# Altium footprint library dingo_pcblib.PcbLib: 10 footprints
Each footprint in its own frame and in the unit in brackets; x right, y up, seen from the top. Pads: shape width x height; smd on the part's side, far side on the other; paste and mask are expansions set on the pad; w line width, h text height; cw(c..) or ccw(c..) is an arc to the next point about the centre after c.
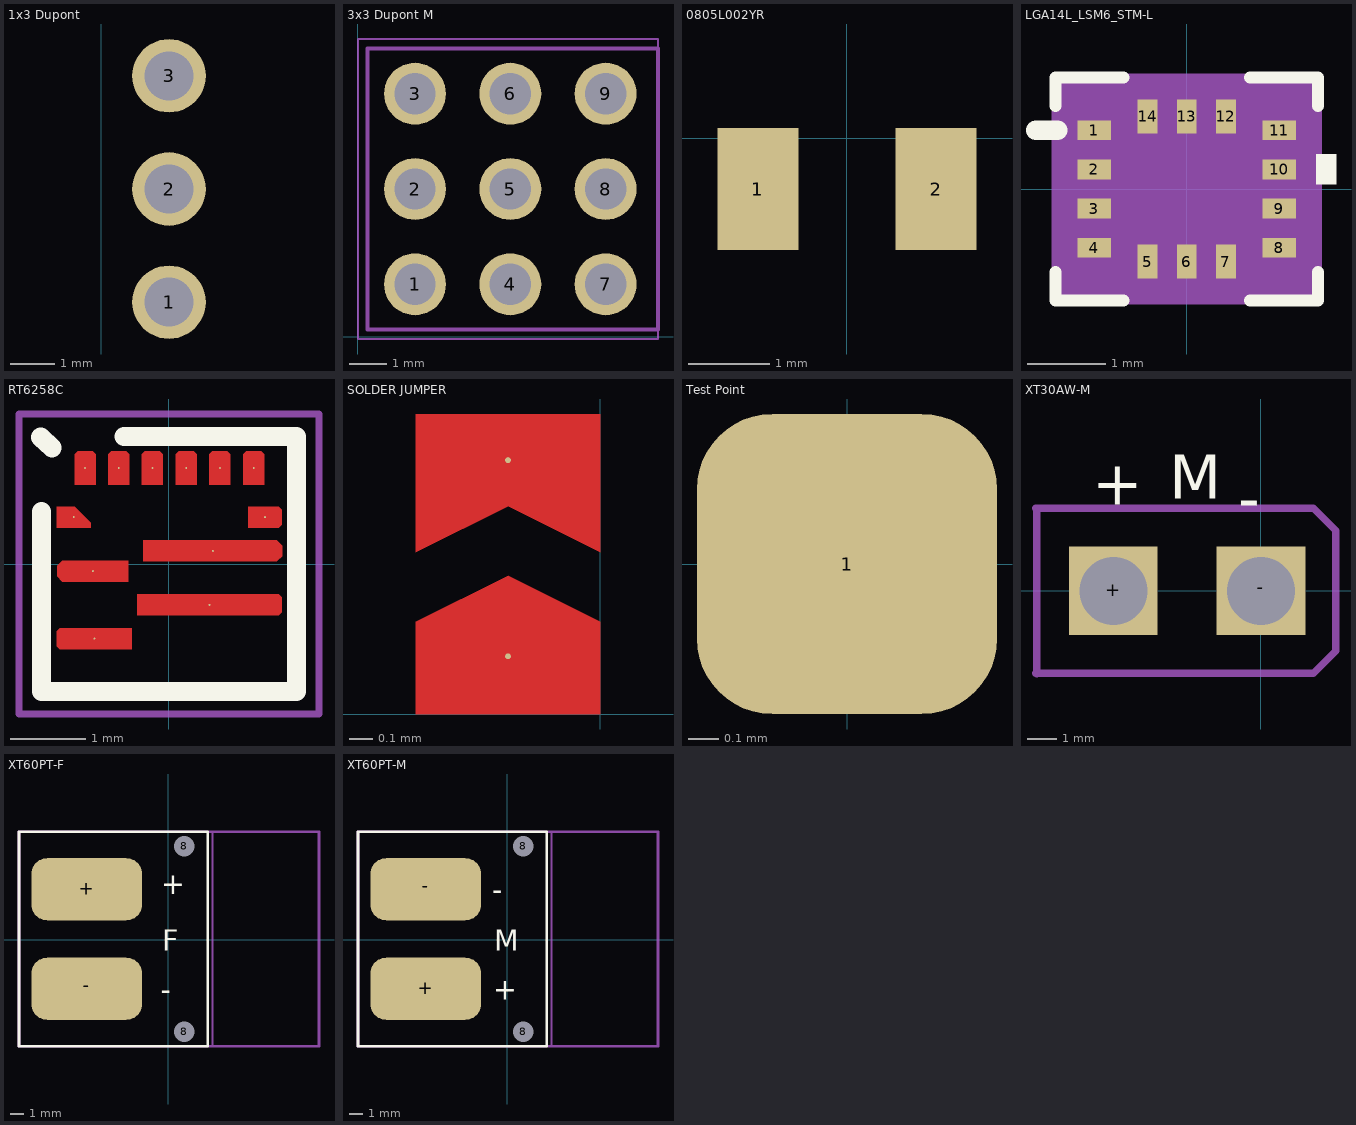
[diagram p0: the footprints below, top view; thin cyan lines are the x and y axes]

## 1x3 Dupont [mm]
pads (3):
  round 1.65 hole 1.1: 1(1.524,1.397) 2(1.524,3.937) 3(1.524,6.477)
3D body "PinHeader_3x01_P2.54mm_Horizontal.step": height 7.62, standoff -3, extent 0.254,-8.56 2.794,6.88

## 3x3 Dupont M [mm]
pads (9):
  round 1.65 hole 1.1: 1(1.524,1.397) 2(1.524,3.937) 3(1.524,6.477) 4(4.064,1.397) 5(4.064,3.937) 6(4.064,6.477) 7(6.604,1.397) 8(6.604,3.937) 9(6.604,6.477)
Mechanical 13:
  lines w0.1: 0.254,0.192 8,0.192 8,7.682 0.254,7.682 0.254,0.192
Mechanical 15:
  lines w0.05: 0.004,-0.058 8,-0.058 8,7.932 0.004,7.932 0.004,-0.058
3D body "PinHeader_3x03_P2.54mm_Horizontal.step": height 7.62, standoff -3, extent 0.3,-8.62 7.92,6.82

## 0805L002YR [mm] "Fuse"
pads (2):
  rect 1x1.5 smd: 1(-1.1,-0.625) 2(1.1,-0.625)
3D body "0000035768.stp": height 1.25, standoff 0, extent -1.125,-1.375 1.075,0.125

## LGA14L_LSM6_STM-L [mil]
pads (14):
  rect 17x10 smd paste+0 mask+0: 1(-46.5,29.54) 2(-46.5,9.85) 3(-46.5,-9.85) 4(-46.5,-29.54) 8(46.5,-29.54) 9(46.5,-9.85) 10(46.5,9.85) 11(46.5,29.54)
  rect 10x17 smd paste+0 mask+0: 5(-19.69,-36.5) 6(0,-36.5) 7(19.69,-36.5) 12(19.69,36.5) 13(0,36.5) 14(-19.69,36.5)
Top Overlay:
  region: 65,17.34 75,17.34 75,2.35 65,2.35
  lines w6: -66,-41.65 -66,-56 -31.8,-56 ; -66,41.65 -66,56 -31.8,56 ; 31.8,-56 66,-56 66,-41.65 ; 31.8,56 66,56 66,41.65
  lines w10: -75.79,29.53 -64.96,29.53
Mechanical 13:
  lines w1: -61,1 -11,51 ; -61,-51 61,-51 61,51 -61,51 -61,-51 ; -61,-35.53 -61,-23.54 -57,-23.54 -57,-35.53 -61,-35.53 ; -61,-15.85 -61,-3.85 -57,-3.85 -57,-15.85 -61,-15.85 ; -61,3.85 -61,15.85 -57,15.85 -57,3.85 -61,3.85 ; -61,23.54 -61,35.53 -57,35.53 -57,23.54 -61,23.54 ; -25.69,-51 -13.69,-51 -13.69,-47 -25.69,-47 -25.69,-51 ; -25.69,47 -13.69,47 -13.69,51 -25.69,51 -25.69,47 ; -6,-51 6,-51 6,-47 -6,-47 -6,-51 ; -6,47 6,47 6,51 -6,51 -6,47 ; 13.69,-51 25.69,-51 25.69,-47 13.69,-47 13.69,-51 ; 13.69,47 25.69,47 25.69,51 13.69,51 13.69,47 ; 57,-35.53 61,-35.53 61,-23.54 57,-23.54 57,-35.53 ; 57,-15.85 61,-15.85 61,-3.85 57,-3.85 57,-15.85 ; 57,3.85 61,3.85 61,15.85 57,15.85 57,3.85 ; 57,23.54 61,23.54 61,35.53 57,35.53 57,23.54
  text "*" at -19.5,4.54 h50
Mechanical 15:
  region: -28.69,-55 -65,-55 -65,-38.53 -65,38.53 -65,55 -28.69,55 28.69,55 65,55 65,38.53 65,-38.53 65,-55 28.69,-55
  lines w6: -65,-55 -65,-38.53 -65,38.53 -65,55 -28.69,55 28.69,55 65,55 65,38.53 65,-38.53 65,-55 28.69,-55 -28.69,-55 -65,-55
3D body "LGA14L_LSM6_STM.step": height 55.12, standoff 0, extent -60.98,-50.98 60.98,50.98

## RT6258C [mil]
pads (12):
  round 1 / inner round 0 / far side oct 0x0 all layers, no hole mask+2.36: 1(-50,24.61) 3(-39.17,-39.17) 4(21.26,-21.46) 6(50.39,24.61) 8(26.77,50.39) 9(9.06,50.39) 10(-8.66,50.39) 11(-26.38,50.39) 12(-44.09,50.39)
  round 1 / inner round 0 / far side oct 0x0 all layers, no hole mask-99999: 2(-39.96,-3.74) 5(23.03,6.89)
  round 1 / inner round 0 / far side round 0 all layers, no hole mask+2.36: 7(44.49,50.39)
Top Layer:
  region: -55.91,1.77 -58.66,-0.98 -58.66,-6.5 -55.91,-9.25 -21.26,-9.25 -21.26,1.77
  region: -19.49,-44.69 -19.49,-33.66 -57.28,-33.66 -58.86,-35.24 -58.86,-43.11 -57.28,-44.69
  region: -49.49,30.12 -41.14,21.77 -41.14,19.09 -58.86,19.09 -58.86,30.12
  region: 41.54,30.12 41.54,19.09 57.68,19.09 59.25,20.67 59.25,28.54 57.68,30.12
  region: 38.98,41.54 50,41.54 50,57.68 48.43,59.25 40.55,59.25 38.98,57.68
  region: 21.26,41.54 32.28,41.54 32.28,57.68 30.71,59.25 22.83,59.25 21.26,57.68
  region: 3.54,41.54 14.57,41.54 14.57,57.68 12.99,59.25 5.12,59.25 3.54,57.68
  region: -14.17,41.54 -3.15,41.54 -3.15,57.68 -4.72,59.25 -12.6,59.25 -14.17,57.68
  region: -31.89,41.54 -20.87,41.54 -20.87,57.68 -22.44,59.25 -30.31,59.25 -31.89,57.68
  region: -49.61,41.54 -38.58,41.54 -38.58,57.68 -40.16,59.25 -48.03,59.25 -49.61,57.68
  region: -16.73,-15.94 -16.73,-26.97 57.68,-26.97 59.25,-25.39 59.25,-17.52 57.68,-15.94
  region: 56.69,1.38 59.45,4.13 59.45,9.65 56.69,12.4 -13.39,12.4 -13.39,1.38
Top Overlay:
  lines w10: -67.32,66.54 -61.42,61.02 ; -66.93,27.56 -66.93,-66.93 66.93,-66.93 66.93,66.93 -23.62,66.93
Top Solder:
  region: -60.24,-11.61 -60.24,4.13 -19.69,4.13 -19.69,-11.61
  region: -16.34,-0.98 -16.34,14.76 62.4,14.76 62.4,-0.98
Bottom Solder:
  circle w0: c-39.96,-3.74 r0
  circle w0: c23.03,6.89 r0
Mechanical 15:
  lines w3.94: -78.74,-78.74 78.74,-78.74 78.74,78.74 -78.74,78.74 -78.74,-78.74
3D body "RT6258CGQUF.stp": height 19.68, standoff -1.97, extent -59.06,-59.06 59.06,59.06

## SOLDER JUMPER [mil]
pads (2):
  round 1 smd mask+0: 1(-15.75,9.84) 2(-15.75,43.31)
Top Layer:
  region: 0,51.18 0,27.56 -15.75,35.43 -31.5,27.56 -31.5,51.18
  region: 0,15.75 -15.75,23.62 -31.5,15.75 -31.5,0 0,0

## Test Point [mm]
pads (1):
  rrect50% 1x1 / inner rrect60% 0x0 / far side rrect60% 0x0 all layers, no hole: 1(0,0)

## XT30AW-M [mm] "XT30 male"
pads (2):
  rect 3x3 hole 2.3: +(-5,0) -(0,0)
Top Overlay:
  text "+" at -5.715,2.921 h1.5
  text "-" at -0.762,2.413 h1.5
  text "M" at -3.102,3.121 h1.5
Mechanical 1:
  lines w0.254: -7.62,-2.794 1.778,-2.794 2.54,-2.032 2.54,2.032 1.778,2.794 -7.62,2.794 ; -7.6,-2.8 -7.6,2.8
3D body "XT30AW-M.stp": height 10.7, standoff -3.08, extent -7.6,-2.8 2.6,2.8

## XT60PT-F [mm]
pads (4):
  rect 1x1 hole 1.5 square: 8(1.15,-6.65) 8(1.15,6.75)
  rrect50% 8x4.5 smd: +(-5.9,3.65) -(-5.9,-3.55)
Top Overlay:
  lines w0.2: -10.8,-7.7 -10.8,7.8 2.85,7.8 2.85,-7.7 -10.8,-7.7
  text "F" at -0.435,-0.816 h1.5
  text "-" at -0.55,-4.35 h1.5
  text "+" at -0.5,3.3 h1.5
Mechanical 1:
  lines w0.15: 3.2,-7.7 3.2,7.8
  lines w0.2: -10.8,-7.7 -10.8,7.8 10.9,7.8 10.9,-7.7 -10.8,-7.7
  text "PCB Edge" at 3,-1.6 h0.5
3D body "User Library-XT60PT-F 3D DRAWING.sldprt": height 9.1, standoff -0.9, extent -11.4,-7.95 10.4,7.95

## XT60PT-M [mm]
pads (4):
  rect 1x1 hole 1.5 square: 8(1.15,-6.65) 8(1.15,6.75)
  rrect50% 8x4.5 smd: +(-5.9,-3.55) -(-5.9,3.65)
Top Overlay:
  lines w0.2: -10.8,-7.7 2.85,-7.7 2.85,7.8 -10.8,7.8 -10.8,-7.7
  text "+" at -1,-4.35 h1.5
  text "-" at -1.1,2.9 h1.5
  text "M" at -0.943,-0.816 h1.5
Mechanical 1:
  lines w0.15: 3.2,-7.7 3.2,7.8
  lines w0.2: -10.8,-7.7 10.9,-7.7 10.9,7.8 -10.8,7.8 -10.8,-7.7
  text "PCB Edge" at 3,-1.6 h0.5
3D body "User Library-XT60PT-M 3D DRAWING.step": height 8.44, standoff -1.56, extent -11.23,-7.92 11.57,7.98